# Altium footprint library RESC.PcbLib: 9 footprints
Each footprint in its own frame and in the unit in brackets; x right, y up, seen from the top. Pads: shape width x height; smd on the part's side, far side on the other; paste and mask are expansions set on the pad; w line width, h text height; cw(c..) or ccw(c..) is an arc to the next point about the centre after c.
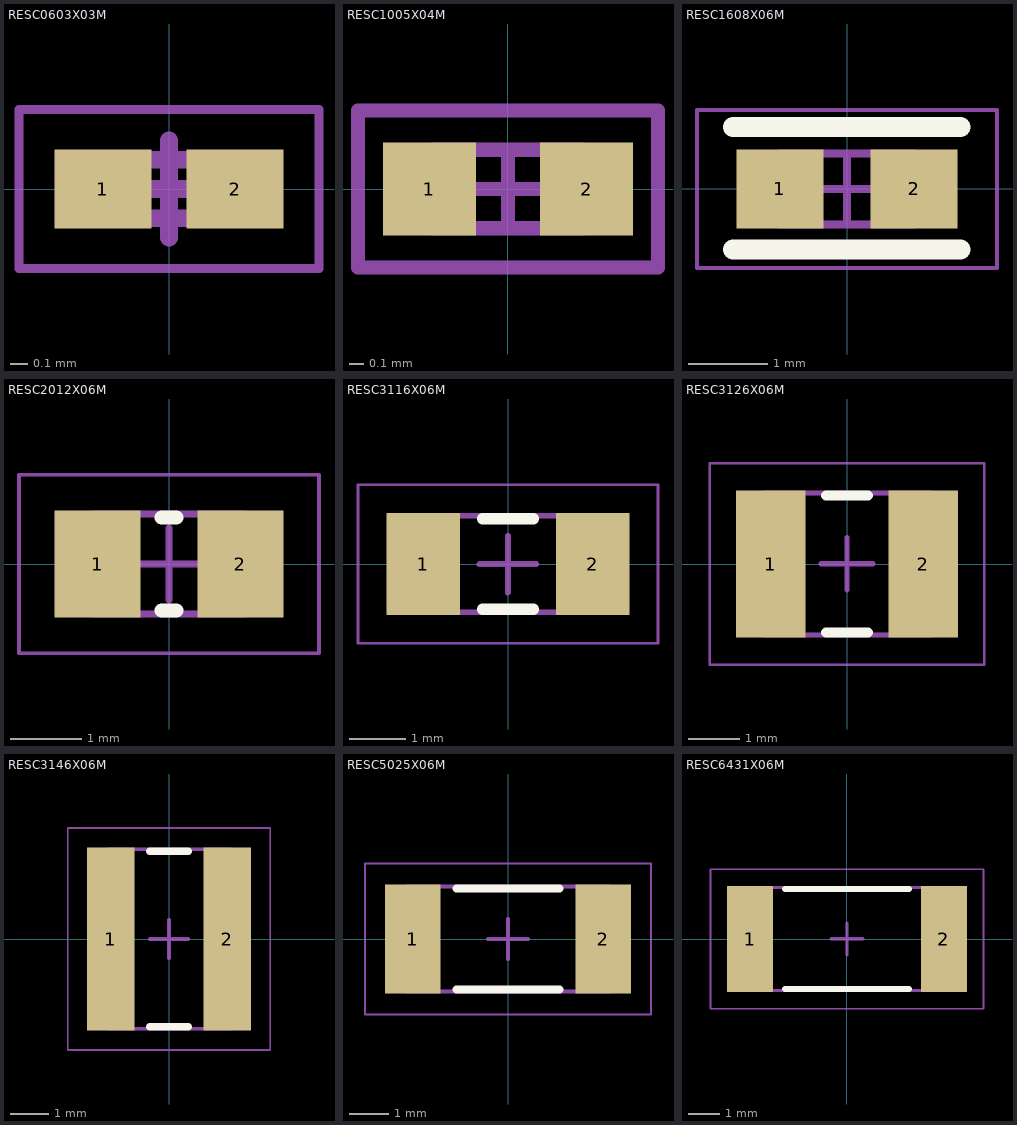
[diagram p0: the footprints below, top view; thin cyan lines are the x and y axes]

## RESC0603X03M [mm] "Chip Resistor, 2-Leads, Body 0.60x0.30mm, IPC Low Density"
height 0.26
pads (2):
  rect 0.55x0.45 smd: 1(-0.375,0) 2(0.375,0)
Top Assembly:
  lines w0.1: -0.275,0 0.275,0 ; 0,-0.275 0,0.275 ; -0.315,-0.165 0.315,-0.165 0.315,0.165 -0.315,0.165 -0.315,-0.165
  text ".Designator" at 1.05,0.017 h0.8
Top Courtyard:
  lines w0.05: -0.85,-0.45 0.85,-0.45 0.85,0.45 -0.85,0.45 -0.85,-0.45
  lines w0.1: -0.165,0 0.165,0 ; 0,-0.165 0,0.165
3D body "RESC0603X03M.step": height 0.26, standoff 0, extent -0.315,-0.165 0.315,0.165

## RESC1005X04M [mm] "Chip Resistor, 2-Leads, Body 1.00x0.50mm, IPC Low Density"
height 0.4
pads (2):
  rect 0.65x0.65 smd: 1(-0.55,0) 2(0.55,0)
Top Assembly:
  lines w0.1: -0.275,0 0.275,0 ; 0,-0.275 0,0.275 ; -0.525,-0.275 -0.525,0.275 0.525,0.275 0.525,-0.275 -0.525,-0.275
  text ".Designator" at 1.335,-0.096 h0.8
Top Courtyard:
  lines w0.1: -0.275,0 0.275,0 ; 0,-0.275 0,0.275 ; -1.05,-0.55 -1.05,0.55 1.05,0.55 1.05,-0.55 -1.05,-0.55
3D body "RESC1005X04M.step": height 0.4, standoff 0, extent -0.525,-0.275 0.525,0.275

## RESC1608X06M [mm] "Chip Resistor, 2-Leads, Body 1.60x0.80mm, IPC Low Density"
height 0.55
pads (2):
  rect 1.1x1 smd: 1(-0.85,0) 2(0.85,0)
Top Overlay:
  lines w0.254: -1.446,-0.764 1.44,-0.764 ; -1.446,0.785 1.44,0.785
Top Assembly:
  lines w0.1: -0.45,0 0.45,0 ; 0,-0.45 0,0.45 ; -0.85,-0.45 -0.85,0.45 0.85,0.45 0.85,-0.45 -0.85,-0.45
  text ".Designator" at 1.64,-0.297 h0.8
Top Courtyard:
  lines w0.05: -1.9,-1 -1.9,1 1.9,1 1.9,-1 -1.9,-1
  lines w0.1: -0.45,0 0.45,0 ; 0,-0.45 0,0.45
3D body "RESC1608X06M.step": height 0.55, standoff 0, extent -0.85,-0.45 0.85,0.45

## RESC2012X06M [mm] "Chip Resistor, 2-Leads, Body 2.00x1.25mm, IPC Low Density"
height 0.65
pads (2):
  rect 1.2x1.5 smd: 1(-1,0) 2(1,0)
Top Overlay:
  lines w0.2: -0.1,-0.65 0.1,-0.65 ; -0.1,0.65 0.1,0.65
Top Assembly:
  lines w0.1: -0.5,0 0.5,0 ; 0,-0.5 0,0.5 ; -1.05,-0.7 -1.05,0.7 1.05,0.7 1.05,-0.7 -1.05,-0.7
  text ".Designator" at 1.807,-0.578 h0.8
Top Courtyard:
  lines w0.05: -2.1,-1.25 -2.1,1.25 2.1,1.25 2.1,-1.25 -2.1,-1.25
  lines w0.1: -0.5,0 0.5,0 ; 0,-0.5 0,0.5
3D body "RESC2012X06M.step": height 0.65, standoff 0, extent -1.05,-0.7 1.05,0.7

## RESC3116X06M [mm] "Chip Resistor, 2-Leads, Body 3.10x1.60mm, IPC Low Density"
height 0.65
pads (2):
  rect 1.3x1.8 smd: 1(-1.5,0) 2(1.5,0)
Top Overlay:
  lines w0.2: -0.45,-0.8 0.45,-0.8 ; -0.45,0.8 0.45,0.8
Top Assembly:
  lines w0.1: -0.5,0 0.5,0 ; 0,-0.5 0,0.5 ; -1.6,-0.85 -1.6,0.85 1.6,0.85 1.6,-0.85 -1.6,-0.85
  text ".Designator" at 1.8,-0.383 h0.8
Top Courtyard:
  lines w0.05: -2.65,-1.4 -2.65,1.4 2.65,1.4 2.65,-1.4 -2.65,-1.4
  lines w0.1: -0.502,-0.006 0.498,-0.006 ; -0.002,-0.506 -0.002,0.494
3D body "RESC3116X06M.step": height 0.65, standoff 0, extent -1.6,-0.85 1.6,0.85

## RESC3126X06M [mm] "Chip Resistor, 2-Leads, Body 3.10x2.60mm, IPC Low Density"
height 0.65
pads (2):
  rect 1.35x2.85 smd: 1(-1.475,0) 2(1.475,0)
Top Overlay:
  lines w0.2: -0.4,-1.325 0.4,-1.325 ; -0.4,1.325 0.4,1.325
Top Assembly:
  lines w0.1: -0.498,0.006 0.502,0.006 ; 0.002,-0.494 0.002,0.506 ; -1.6,-1.375 -1.6,1.375 1.6,1.375 1.6,-1.375 -1.6,-1.375
  text ".Designator" at 1.881,-0.235 h0.8
Top Courtyard:
  lines w0.05: -2.65,-1.95 -2.65,1.95 2.65,1.95 2.65,-1.95 -2.65,-1.95
  lines w0.1: -0.5,0 0.5,0 ; 0,-0.5 0,0.5
3D body "RESC3126X06M.step": height 0.65, standoff 0, extent -1.6,-1.375 1.6,1.375

## RESC3146X06M [mm] "Chip Resistor, 2-Leads, Body 3.10x4.60mm, IPC Low Density"
height 0.65
pads (2):
  rect 1.25x4.8 smd: 1(-1.525,0) 2(1.525,0)
Top Overlay:
  lines w0.2: -0.5,-2.3 0.5,-2.3 ; -0.5,2.3 0.5,2.3
Top Assembly:
  lines w0.1: -0.498,0.006 0.502,0.006 ; 0.002,-0.494 0.002,0.506 ; -1.6,-2.35 1.6,-2.35 1.6,2.35 -1.6,2.35 -1.6,-2.35
  text ".Designator" at 2.001,-0.235 h0.8
Top Courtyard:
  lines w0.05: -2.65,-2.9 2.65,-2.9 2.65,2.9 -2.65,2.9 -2.65,-2.9
  lines w0.1: -0.5,0 0.5,0 ; 0,-0.5 0,0.5
3D body "RESC3146X06M.step": height 0.65, standoff 0, extent -1.6,-2.35 1.6,2.35

## RESC5025X06M [mm] "Chip Resistor, 2-Leads, Body 5.00x2.50mm, IPC Low Density"
height 0.65
pads (2):
  rect 1.4x2.75 smd: 1(-2.4,0) 2(2.4,0)
Top Overlay:
  lines w0.2: -1.3,-1.275 1.3,-1.275 ; -1.3,1.275 1.3,1.275
Top Assembly:
  lines w0.1: -0.498,0.006 0.502,0.006 ; 0.002,-0.494 0.002,0.506 ; -2.55,-1.325 -2.55,1.325 2.55,1.325 2.55,-1.325 -2.55,-1.325
  text ".Designator" at 2.975,-0.51 h0.8
Top Courtyard:
  lines w0.05: -3.6,-1.9 -3.6,1.9 3.6,1.9 3.6,-1.9 -3.6,-1.9
  lines w0.1: -0.5,0 0.5,0 ; 0,-0.5 0,0.5
3D body "RESC5025X06M.step": height 0.65, standoff 0, extent -2.55,-1.325 2.55,1.325

## RESC6431X06M [mm] "Chip Resistor, 2-Leads, Body 6.35x3.10mm, IPC Low Density"
height 0.65
pads (2):
  rect 1.45x3.35 smd: 1(-3.05,0) 2(3.05,0)
Top Overlay:
  lines w0.2: -1.95,-1.575 1.95,-1.575 ; -1.95,1.575 1.95,1.575
Top Assembly:
  lines w0.1: -0.5,0.006 0.5,0.006 ; 0,-0.494 0,0.506 ; -3.225,-1.625 -3.225,1.625 3.225,1.625 3.225,-1.625 -3.225,-1.625
  text ".Designator" at 3.525,-0.482 h0.8
Top Courtyard:
  lines w0.05: -4.3,-2.2 -4.3,2.2 4.3,2.2 4.3,-2.2 -4.3,-2.2
  lines w0.1: -0.5,0 0.5,0 ; 0,-0.5 0,0.5
3D body "RESC6431X06M.step": height 0.65, standoff 0, extent -3.225,-1.625 3.225,1.625